# Altium schematic symbol library ic_analog.SchLib: 3 symbols
Pins are listed as number, name and electrical type; pins without a type are passive.

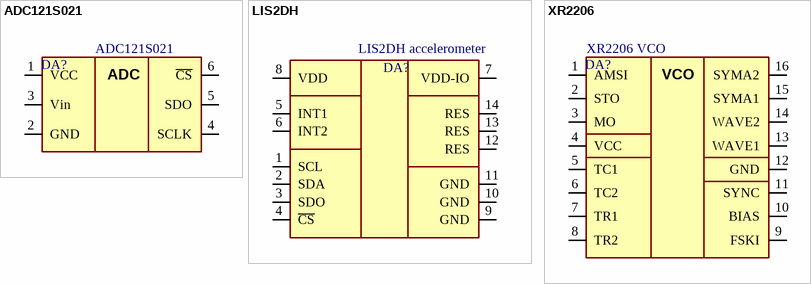
[diagram p0: symbols ADC121S021 to XR2206]

## ADC121S021
designator DA?
ADC 1-Ch 12bits 50ksps; ManufacturerPartNumber: ADC121S021CIMF; Manufacturer: TexasInstruments; Power/Voltage: 5V; RevisionDate: 12-11-2018; Type: ic-adc; Value: 12bits; Package: SOT-26; Name: ADC121S021
footprint SOT-26 (SOT23, 6-Leads, Body 3,00x2,85mm, Pitch 0,95mm, IPC Medium Density)
pins: 1 VCC, 2 GND, 3 Vin, 4 SCLK, 5 SDO, 6 ~{CS}
text: ADC

## LIS2DH
designator DA?, comment LIS2DH accelerometer
LIS2DH Accelerometer 3axis ±8g 12bit 4.5kHz; ManufacturerPartNumber: LIS2DHTR; Manufacturer: China; Power/Voltage: 5V; RevisionDate: 12-11-2018; Type: ic-analog; Value: ±8g; Package: QFN-14; Name: LIS2DH accelerometer
footprint QFN-14/2020 (QFN, 14-Leads, Body 2.00x2.00mm, Pitch 0.35mm, Thermal Pad 1.00x1.00mm, IPC Medium Density)
pins: 1 SCL, 2 SDA, 3 SDO, 4 ~{CS}, 5 INT1, 6 INT2, 7 VDD-IO, 8 VDD, 9 GND, 10 GND, 11 GND, 12 RES, 13 RES, 14 RES

## XR2206
designator DA?, comment XR2206 VCO
VCO 1MHz sine/saw; Manufacturer: XR Semiconductor; Power/Voltage: 16V; Tolerance: 10%; ManufacturerPartNumber: XR2206; RevisionDate: 12-11-2018; Value: 1MHz; Type: ic-analog; Package: DIP-16; Name: XR2206 VCO
footprint SOIC-16 (SOIC, 16-Leads, Body 10,60x3,90mm, Pitch 1,27mm, IPC Medium Density)
footprint DIP-16
pins: 1 AMSI, 2 STO, 3 MO, 4 VCC, 5 TC1, 6 TC2, 7 TR1, 8 TR2, 9 FSKI, 10 BIAS, 11 SYNC, 12 GND, 13 WAVE1, 14 WAVE2, 15 SYMA1, 16 SYMA2
text: VCO